# Altium footprint library 4GMODULE.PcbLib: 36 footprints (part 3 of 3)
Each footprint in its own frame and in the unit in brackets; x right, y up, seen from the top. Pads: shape width x height; smd on the part's side, far side on the other; paste and mask are expansions set on the pad; w line width, h text height; cw(c..) or ccw(c..) is an arc to the next point about the centre after c.
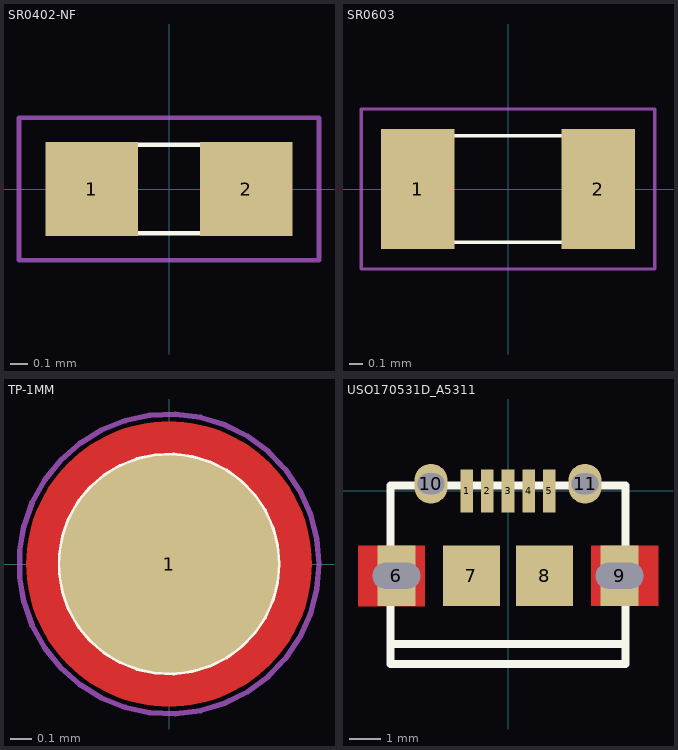
[diagram p2: the footprints below, top view; thin cyan lines are the x and y axes]

## SR0402-NF [mm]
pads (2):
  rect 0.52x0.53 smd: 1(-0.435,0) 2(0.435,0)
Top Overlay:
  lines w0.025: -0.5,-0.25 0.5,-0.25 0.5,0.25 -0.5,0.25 -0.5,-0.25
Mechanical 1:
  lines w0.025: -0.845,-0.4 0.845,-0.4 0.845,0.4 -0.845,0.4 -0.845,-0.4

## SR0603 [mm]
pads (2):
  rect 0.551x0.899 smd: 1(-0.676,0) 2(0.676,0)
Top Overlay:
  lines w0.025: -0.8,-0.4 0.8,-0.4 0.8,0.4 -0.8,0.4 -0.8,-0.4
Mechanical 1:
  lines w0.025: -1.1,-0.6 1.1,-0.6 1.1,0.6 -1.1,0.6 -1.1,-0.6

## TP-1MM [mil]
pads (1):
  round 40 smd: 1(0,0)
Top Layer:
  pour cut-out: 26.18,0 26.15,1.37 26.04,2.74 25.86,4.1 25.61,5.44 25.29,6.78 24.9,8.09 24.44,9.38 23.92,10.65 23.33,11.89 22.67,13.09 21.96,14.26 21.18,15.39 20.35,16.48 19.46,17.52 18.51,18.51 17.52,19.46 16.48,20.35 15.39,21.18 14.26,21.96 13.09,22.67 11.89,23.33 10.65,23.92 9.38,24.44 8.09,24.9 6.78,25.29 5.44,25.61 4.1,25.86 2.74,26.04 1.37,26.15 0,26.18 -1.37,26.15 -2.74,26.04 -4.1,25.86 -5.44,25.61 -6.78,25.29 -8.09,24.9 -9.38,24.44 -10.65,23.92 -11.89,23.33 -13.09,22.67 -14.26,21.96 -15.39,21.18 -16.48,20.35 -17.52,19.46 -18.51,18.51 -19.46,17.52 -20.35,16.48 -21.18,15.39 -21.96,14.26 -22.67,13.09 -23.33,11.89 -23.92,10.65 -24.44,9.38 -24.9,8.09 -25.29,6.78 -25.61,5.44 -25.86,4.1 -26.04,2.74 -26.15,1.37 -26.18,0 -26.15,-1.37 -26.04,-2.74 -25.86,-4.1 -25.61,-5.44 -25.29,-6.78 -24.9,-8.09 -24.44,-9.38 -23.92,-10.65 -23.33,-11.89 -22.67,-13.09 -21.96,-14.26 -21.18,-15.39 -20.35,-16.48 -19.46,-17.52 -18.51,-18.51 -17.52,-19.46 -16.48,-20.35 -15.39,-21.18 -14.26,-21.96 -13.09,-22.67 -11.89,-23.33 -10.65,-23.92 -9.38,-24.44 -8.09,-24.9 -6.78,-25.29 -5.44,-25.61 -4.1,-25.86 -2.74,-26.04 -1.37,-26.15 0,-26.18 1.37,-26.15 2.74,-26.04 4.1,-25.86 5.44,-25.61 6.78,-25.29 8.09,-24.9 9.38,-24.44 10.65,-23.92 11.89,-23.33 13.09,-22.67 14.26,-21.96 15.39,-21.18 16.48,-20.35 17.52,-19.46 18.51,-18.51 19.46,-17.52 20.35,-16.48 21.18,-15.39 21.96,-14.26 22.67,-13.09 23.33,-11.89 23.92,-10.65 24.44,-9.38 24.9,-8.09 25.29,-6.78 25.61,-5.44 25.86,-4.1 26.04,-2.74 26.15,-1.37
Top Overlay:
  circle w1: c0,0 r20
Mechanical 1:
  circle w1: c0,0 r27.56

## USO170531D_A5311 [mm]
pads (11):
  rect 0.4x1.35 smd: 1(-1.3,0) 2(-0.65,0) 3(0,0) 4(0.65,0) 5(1.3,0)
  rect 1.2x1.9 / inner oval 1.2x1.9 / far side oval 1.2x1.9 hole 0.825 slot 1.5 at 0 deg: 6(-3.512,-2.675) 9(3.512,-2.675)
  rect 1.8x1.9 smd: 7(-1.15,-2.675) 8(1.15,-2.675)
  oval 1.05x1.25 hole 0.65 slot 0.85 at 0 deg: 10(-2.425,0.225) 11(2.425,0.225)
Top Layer:
  region: -2.624,-3.625 -4.723,-3.625 -4.723,-1.726 -2.624,-1.726
  region: 2.624,-1.725 4.723,-1.725 4.723,-3.624 2.624,-3.624
Top Overlay:
  lines w0.254: -3.7,-4.825 3.7,-4.825 ; -3.7,-5.455 -3.7,0 -3.7,0.175 3.7,0.175 3.7,-5.455 -3.7,-5.455
Top Paste:
  drawing of 4 lines, arcs and shapes, not listed
Top Solder:
  drawing of 2 lines, arcs and shapes, not listed
Bottom Solder:
  drawing of 4 lines, arcs and shapes, not listed